# Altium schematic symbol library 1 Ohm 1W res TH.SchLib: 1 symbol
Pins are listed as number, name and electrical type; pins without a type are passive.

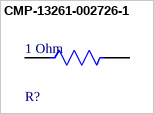
[diagram p0: symbol CMP-13261-002726-1]

## CMP-13261-002726-1
designator R?, comment 1 Ohm
Res Thick Film 2512 1Ω 5% 1W ±300ppm/°C Pad SMD T/R; Voltage Rating (DC): 200V; Resistance: 1R; Max Power Dissipation: 1W; Min Operating Temperature: -55°C; Case Code (Imperial): 2512; Features: Moisture Resistant; Height: 0.026inch; Depth: 3.2mm; Radiation Hardening: No; Composition: Thick Film; Tolerance: 5%; Packaging: Tape and Reel; Lead Free: Lead Free; Temperature Coefficient: 300ppm/°C; Width: 0.126inch; Contact Plating: Tin; Power Rating: 1W; Military Standard: Not; Length: 0.252inch; Number of Terminations: 2; Max Operating Temperature: 155°C; Case Code (Metric): 6432; Case/Package: 2512
footprint FP-RLP01-MFG
pins: 1, 2